# EAGLE library part MPRLS0025PA00001A (library EYR_Sensores)
MicroPressure Board Mount Pressure Sensors MPR Series - Compact, High Accuracy, Compensated/Amplified Source: https://www.mouser.mx/datasheet/2/187/honeywell-sensing-micropressure-board-mount-pressu-1154293.pdf
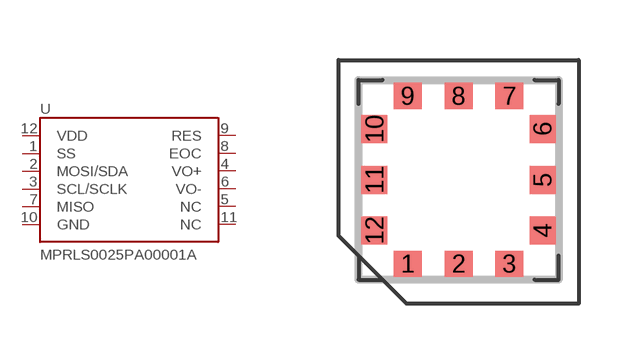
[diagram p2: symbol with the pads of MPRLS0025PA00001A; footprint MPRLS0025PA00001A]

Designator prefix U

## MPRLS0025PA00001A  [MPRLS0025PA00001A]
1  SS
2  MOSI/SDA
3  SCL/SCLK
4  VO+
5  NC  nc
6  VO-
7  MISO
8  EOC  out
9  RES  out
10  GND  pwr
11  NC  nc
12  VDD  pwr

## Footprint MPRLS0025PA00001A (pad centres in mm)
MPR Series Long Port
smd 0.7 x 0.65: 1 -1.27,-1.8; 2 0,-1.8; 3 1.27,-1.8; 7 1.27,2.4; 8 0,2.4; 9 -1.27,2.4
smd 0.65 x 0.7: 4 2.1,-0.97; 5 2.1,0.3; 6 2.1,1.57; 10 -2.1,1.57; 11 -2.1,0.3; 12 -2.1,-0.97